# Altium footprint library SOP63P600X175-16N.PcbLib: 1 footprints
Each footprint in its own frame and in the unit in brackets; x right, y up, seen from the top. Pads: shape width x height; smd on the part's side, far side on the other; paste and mask are expansions set on the pad; w line width, h text height; cw(c..) or ccw(c..) is an arc to the next point about the centre after c.
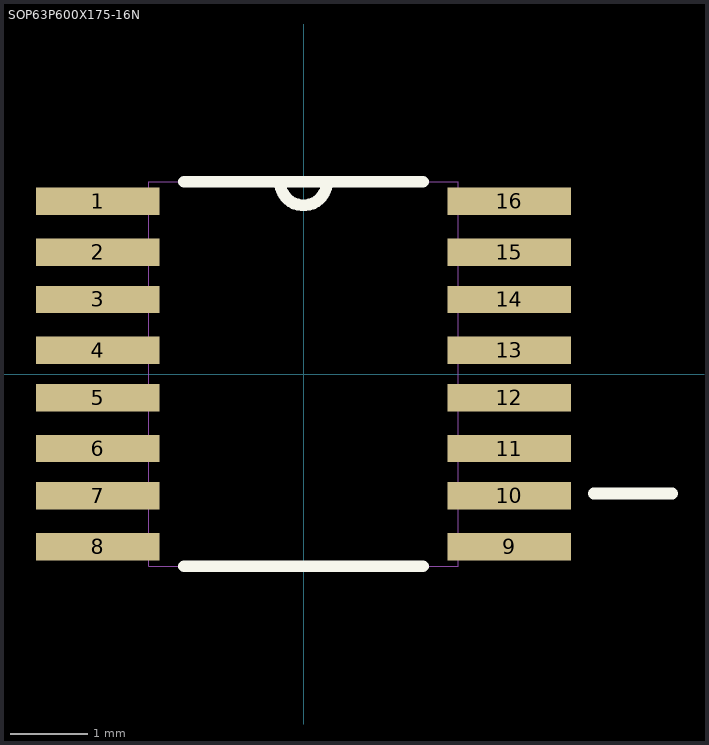
[diagram p0: the footprint, top view; thin cyan lines are the x and y axes]

## SOP63P600X175-16N [mil]
pads (16):
  rect 63x14 smd: 1(-105,88) 2(-105,62) 3(-105,38) 4(-105,12) 5(-105,-12) 6(-105,-38) 7(-105,-62) 8(-105,-88) 9(105,-88) 10(105,-62) 11(105,-38) 12(105,-12) 13(105,12) 14(105,38) 15(105,62) 16(105,88)
Top Overlay:
  lines w6: -61,-98 61,-98 ; -61,98 -12,98 ; 61,98 12,98 ; 148,-61 188,-61 ; -12,98 ccw(c0,98) 12,98 ; -12,98 12,98
Mechanical 13:
  lines w0: -12,98 ccw(c0,98) 12,98 ; -12,98 12,98 ; -12,98 -79,98 -79,-98 79,-98 79,98 12,98 ; -122,-93 -122,-82 -79,-82 -79,-93 -122,-93 ; -122,-68 -122,-57 -79,-57 -79,-68 -122,-68 ; -122,-43 -122,-32 -79,-32 -79,-43 -122,-43 ; -122,-18 -122,-7 -79,-7 -79,-18 -122,-18 ; -122,7 -122,18 -79,18 -79,7 -122,7 ; -122,32 -122,43 -79,43 -79,32 -122,32 ; -122,57 -122,68 -79,68 -79,57 -122,57 ; -122,82 -122,93 -79,93 -79,82 -122,82 ; 79,-93 79,-82 122,-82 122,-93 79,-93 ; 79,-68 79,-57 122,-57 122,-68 79,-68 ; 79,-43 79,-32 122,-32 122,-43 79,-43 ; 79,-18 79,-7 122,-7 122,-18 79,-18 ; 79,7 79,18 122,18 122,7 79,7 ; 79,32 79,43 122,43 122,32 79,32 ; 79,57 79,68 122,68 122,57 79,57 ; 79,82 79,93 122,93 122,82 79,82